# Altium schematic symbol library DIR9001IPWRQ1.SchLib: 1 symbol
Pins are listed as number, name and electrical type; pins without a type are passive.

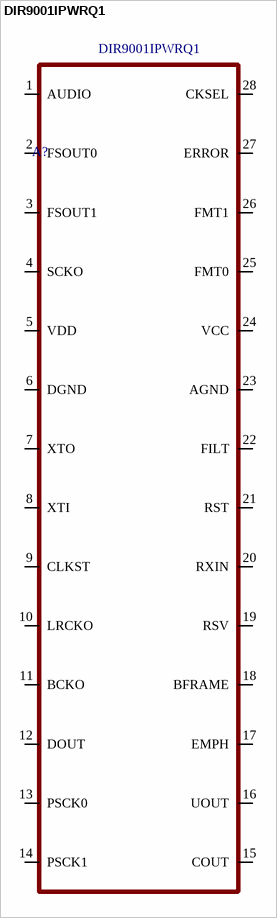
[diagram p0: symbol DIR9001IPWRQ1]

## DIR9001IPWRQ1
designator A?
pins: 1 AUDIO, 2 FSOUT0, 3 FSOUT1, 4 SCKO, 5 VDD, 6 DGND, 7 XTO, 8 XTI, 9 CLKST, 10 LRCKO, 11 BCKO, 12 DOUT, 13 PSCK0, 14 PSCK1, 15 COUT, 16 UOUT, 17 EMPH, 18 BFRAME, 19 RSV, 20 RXIN, 21 RST, 22 FILT, 23 AGND, 24 VCC, 25 FMT0, 26 FMT1, 27 ERROR, 28 CKSEL